# EAGLE library part TP4056-MODULE (library userlib)
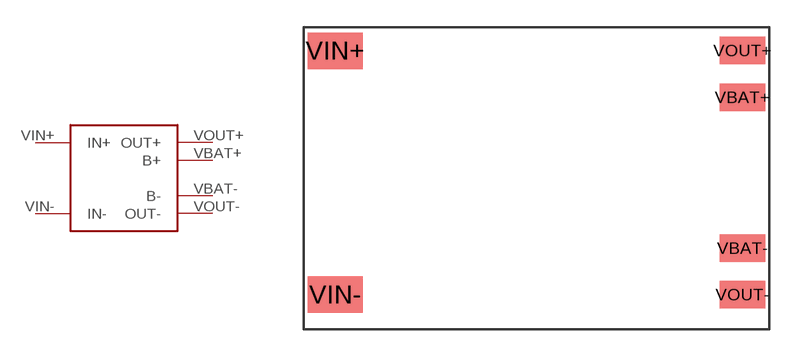
[diagram p5: symbol with the pads of TP4056-LITHIUM-PROTECTED-MODULE; footprint TP4056-LITHIUM-PROTECTED-MODULE]

Designator prefix -

## TP4056-MODULE  [TP4056-LITHIUM-PROTECTED-MODULE]
VBAT+  B+  pwr
VBAT-  B-  pwr
VIN+  IN+  pwr
VIN-  IN-  pwr
VOUT+  OUT+  pwr
VOUT-  OUT-  pwr

## Footprint TP4056-LITHIUM-PROTECTED-MODULE (pad centres in mm)
smd 2.5 x 1.5: VBAT+ 11.25,4.44; VBAT- 11.25,-3.81; VOUT+ 11.25,7; VOUT- 11.25,-6.35
smd 3 x 2: VIN+ -11,6.98; VIN- -11,-6.36